# EAGLE library part BMP280 (library BMP280)
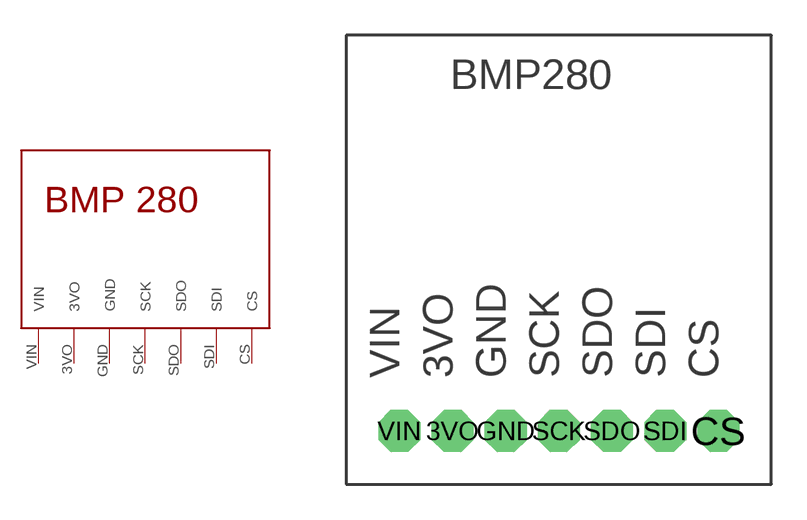
[diagram p0: symbol with the pads of BMP280; footprint BMP280]

Designator prefix -

## BMP280  [BMP280]
3VO  3VO
CS  CS
GND  GND
SCK  SCK
SDI  SDI
SDO  SDO
VIN  VIN

## Footprint BMP280 (pad centres in mm)
drill 1 pad 1.778 octagon: 3VO 4.5,2.25; CS 15.75,2.25; GND 6.75,2.25; SCK 9,2.25; SDI 13.5,2.25; SDO 11.25,2.25; VIN 2.25,2.25